# Altium footprint library 653005117322.PcbLib: 1 footprints
Each footprint in its own frame and in the unit in brackets; x right, y up, seen from the top. Pads: shape width x height; smd on the part's side, far side on the other; paste and mask are expansions set on the pad; w line width, h text height; cw(c..) or ccw(c..) is an arc to the next point about the centre after c.
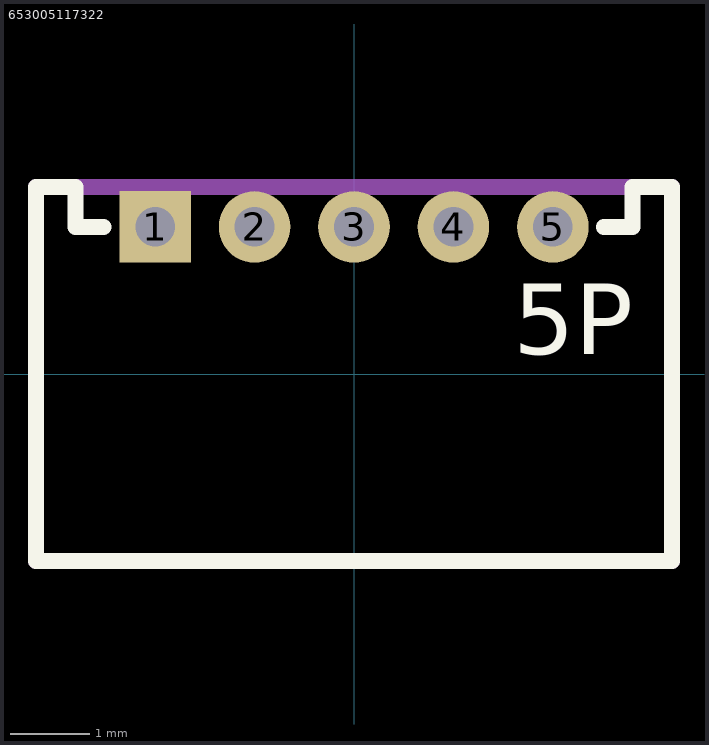
[diagram p0: the footprint, top view; thin cyan lines are the x and y axes]

## 653005117322 [mm] "1.25mm Male Horizontal Shrouded Header, 5p"
height 3.5
pads (5):
  rect 0.9x0.9 hole 0.5: 1(-2.5,1.85)
  round 0.9 hole 0.5: 2(-1.25,1.85) 3(0,1.85) 4(1.25,1.85) 5(2.5,1.85)
Top Overlay:
  lines w0.2: -3.15,1.85 -3.5,1.85 -3.5,2.35 -4,2.35 -4,-2.35 4,-2.35 4,2.35 3.5,2.35 3.5,1.85 3.14,1.85
  text "5P" at 2,0.25 h0.89
Mechanical 13:
  lines w0.2: -4,-2.35 4,-2.35 4,2.35 -4,2.35 -4,-2.35
3D body "653005117322.stp": height 3.55, standoff -2.25, extent -4,-2.35 4,2.35